# Altium integrated library Res-SMD_V2.IntLib: 2369 symbols (part 14 of 18)
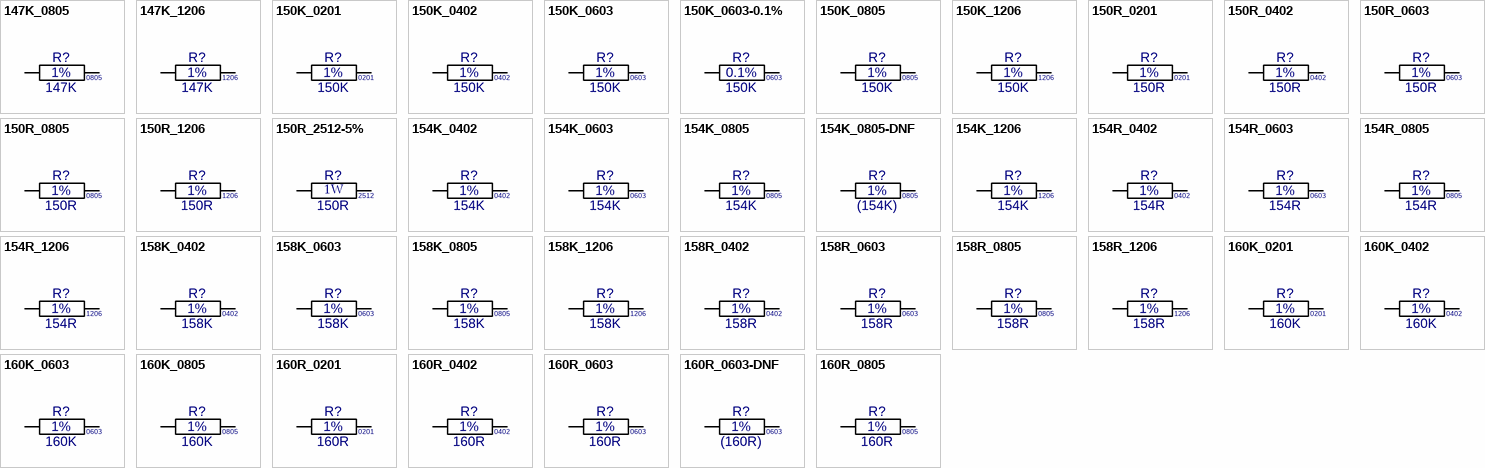
[diagram p72: symbols 147K_0805 to 160R_0805]

## 154R_0805
designator R?, comment value 154R  Tol: 1%  Text1: 0805  (hidden comment: 154R_R0805_1%)
Resistor Chip SMD; Manufacturer: Various; Part Number: 154R 0805 1%; Watt: 125mW; Package: RESC0805X65N; EDM-PN: *; Text2: *; Reutech PN: *; SAAB PN: *; DCE Part No: *
footprint RESC0805X65N (Chip Resistor, 0805, 2-Leads, Body 2.0x1.3mm, IPC Medium Density)
pins: 1, 2

## 154R_1206
designator R?, comment value 154R  Tol: 1%  Text1: 1206  (hidden comment: 154R_R1206_1%)
Resistor Chip SMD; Manufacturer: Various; Part Number: 154R 1206 1%; Watt: 250mW; Package: RESC1206X71N; EDM-PN: *; Text2: *; Reutech PN: *; SAAB PN: *; DCE Part No: *
footprint RESC1206X71N (Chip Resistor, 1206, 2-Leads, Body 3.2x1.6mm, IPC Medium Density)
pins: 1, 2

## 158K_0402
designator R?, comment value 158K  Tol: 1%  Text1: 0402  (hidden comment: 158K_R0402_1%)
Resistor Chip SMD; Manufacturer: Various; Part Number: 158K 0402 1%; Watt: 63mW; Package: RESC0402X40N; EDM-PN: *; Text2: *; Reutech PN: *; SAAB PN: *; DCE Part No: *
footprint RESC0402X40N (Chip Resistor, 0402, 2-Leads, Body 1.1x0.5mm, IPC Medium Density)
pins: 1, 2

## 158K_0603
designator R?, comment value 158K  Tol: 1%  Text1: 0603  (hidden comment: 158K_R0603_1%)
Resistor Chip SMD; Manufacturer: Various; Part Number: 158K 0603 1%; Watt: 100mW; Package: RESC0603X60N; EDM-PN: *; Text2: *; Reutech PN: *; SAAB PN: *; DCE Part No: *
footprint RESC0603X60N (Chip Resistor, 0603, 2-Leads, Body 1.6x0.8mm, IPC Medium Density)
pins: 1, 2

## 158K_0805
designator R?, comment value 158K  Tol: 1%  Text1: 0805  (hidden comment: 158K_R0805_1%)
Resistor Chip SMD; Manufacturer: Various; Part Number: 158K 0805 1%; Watt: 125mW; Package: RESC0805X65N; EDM-PN: *; Text2: *; Reutech PN: *; SAAB PN: *; DCE Part No: *
footprint RESC0805X65N (Chip Resistor, 0805, 2-Leads, Body 2.0x1.3mm, IPC Medium Density)
pins: 1, 2

## 158K_1206
designator R?, comment value 158K  Tol: 1%  Text1: 1206  (hidden comment: 158K_R1206_1%)
Resistor Chip SMD; Manufacturer: Various; Part Number: 158K 1206 1%; Watt: 250mW; Package: RESC1206X71N; EDM-PN: *; Text2: *; Reutech PN: *; SAAB PN: *; DCE Part No: *
footprint RESC1206X71N (Chip Resistor, 1206, 2-Leads, Body 3.2x1.6mm, IPC Medium Density)
pins: 1, 2

## 158R_0402
designator R?, comment value 158R  Tol: 1%  Text1: 0402  (hidden comment: 158R_R0402_1%)
Resistor Chip SMD; Manufacturer: Various; Part Number: 158R 0402 1%; Watt: 63mW; Package: RESC0402X40N; EDM-PN: *; Text2: *; Reutech PN: *; SAAB PN: *; DCE Part No: *
footprint RESC0402X40N (Chip Resistor, 0402, 2-Leads, Body 1.1x0.5mm, IPC Medium Density)
pins: 1, 2

## 158R_0603
designator R?, comment value 158R  Tol: 1%  Text1: 0603  (hidden comment: 158R_R0603_1%)
Resistor Chip SMD; Manufacturer: Various; Part Number: 158R 0603 1%; Watt: 100mW; Package: RESC0603X60N; EDM-PN: *; Text2: *; Reutech PN: *; SAAB PN: *; DCE Part No: *
footprint RESC0603X60N (Chip Resistor, 0603, 2-Leads, Body 1.6x0.8mm, IPC Medium Density)
pins: 1, 2

## 158R_0805
designator R?, comment value 158R  Tol: 1%  Text1: 0805  (hidden comment: 158R_R0805_1%)
Resistor Chip SMD; Manufacturer: Various; Part Number: 158R 0805 1%; Watt: 125mW; Package: RESC0805X65N; EDM-PN: *; Text2: *; Reutech PN: *; SAAB PN: *; DCE Part No: *
footprint RESC0805X65N (Chip Resistor, 0805, 2-Leads, Body 2.0x1.3mm, IPC Medium Density)
pins: 1, 2

## 158R_1206
designator R?, comment value 158R  Tol: 1%  Text1: 1206  (hidden comment: 158R_R1206_1%)
Resistor Chip SMD; Manufacturer: Various; Part Number: 158R 1206 1%; Watt: 250mW; Package: RESC1206X71N; EDM-PN: *; Text2: *; Reutech PN: *; SAAB PN: *; DCE Part No: *
footprint RESC1206X71N (Chip Resistor, 1206, 2-Leads, Body 3.2x1.6mm, IPC Medium Density)
pins: 1, 2

## 160K_0201
designator R?, comment value 160K  Tol: 1%  Text1: 0201  (hidden comment: 160K_R0201_1%)
Resistor Chip SMD; Manufacturer: Various; Part Number: 160K 0201 1%; Watt: 31mW; Package: RESC0201X33N; EDM-PN: *; Text2: *; Reutech PN: *; SAAB PN: *; DCE Part No: *
footprint RESC0201X33N (Chip Resistor, 0201, 2-Leads, Body 0.6x0.3mm, IPC Medium Density)
pins: 1, 2

## 160K_0402
designator R?, comment value 160K  Tol: 1%  Text1: 0402  (hidden comment: 160K_R0402_1%)
Resistor Chip SMD; Manufacturer: Various; Part Number: 160K 0402 1%; Watt: 63mW; Package: RESC0402X40N; EDM-PN: *; Text2: *; Reutech PN: *; SAAB PN: *; DCE Part No: *
footprint RESC0402X40N (Chip Resistor, 0402, 2-Leads, Body 1.1x0.5mm, IPC Medium Density)
pins: 1, 2

## 160K_0603
designator R?, comment value 160K  Tol: 1%  Text1: 0603  (hidden comment: 160K_R0603_1%)
Resistor Chip SMD; Manufacturer: Various; Part Number: 160K 0603 1%; Watt: 100mW; Package: RESC0603X60N; EDM-PN: *; Text2: *; Reutech PN: *; SAAB PN: *; DCE Part No: *
footprint RESC0603X60N (Chip Resistor, 0603, 2-Leads, Body 1.6x0.8mm, IPC Medium Density)
pins: 1, 2

## 160K_0805
designator R?, comment value 160K  Tol: 1%  Text1: 0805  (hidden comment: 160K_R0805_1%)
Resistor Chip SMD; Manufacturer: Various; Part Number: 160K 0805 1%; Watt: 125mW; Package: RESC0805X65N; EDM-PN: *; Text2: *; Reutech PN: *; SAAB PN: *; DCE Part No: *
footprint RESC0805X65N (Chip Resistor, 0805, 2-Leads, Body 2.0x1.3mm, IPC Medium Density)
pins: 1, 2

## 160R_0201
designator R?, comment value 160R  Tol: 1%  Text1: 0201  (hidden comment: 160R_R0201_1%)
Resistor Chip SMD; Manufacturer: Various; Part Number: 160R 0201 1%; Watt: 31mW; Package: RESC0201X33N; EDM-PN: *; Text2: *; Reutech PN: *; SAAB PN: *; DCE Part No: *
footprint RESC0201X33N (Chip Resistor, 0201, 2-Leads, Body 0.6x0.3mm, IPC Medium Density)
pins: 1, 2

## 160R_0402
designator R?, comment value 160R  Tol: 1%  Text1: 0402  (hidden comment: 160R_R0402_1%)
Resistor Chip SMD; Manufacturer: Various; Part Number: 160R 0402 1%; Watt: 63mW; Package: RESC0402X40N; EDM-PN: *; Text2: *; Reutech PN: *; SAAB PN: *; DCE Part No: *
footprint RESC0402X40N (Chip Resistor, 0402, 2-Leads, Body 1.1x0.5mm, IPC Medium Density)
pins: 1, 2

## 160R_0603
designator R?, comment value 160R  Tol: 1%  Text1: 0603  (hidden comment: 160R_R0603_1%)
Resistor Chip SMD; Manufacturer: Various; Part Number: 160R 0603 1%; Watt: 100mW; Package: RESC0603X60N; EDM-PN: *; Text2: *; Reutech PN: *; SAAB PN: *; DCE Part No: *
footprint RESC0603X60N (Chip Resistor, 0603, 2-Leads, Body 1.6x0.8mm, IPC Medium Density)
pins: 1, 2

## 160R_0603-DNF
designator R?, comment value (160R)  Tol: 1%  Text1: 0603  (hidden comment: 160R_R0603_1%-DNF)
Resistor Chip SMD - Do not Fit; Manufacturer: Various; Part Number: DNF - 160R 0603 1%; Watt: 100mW; Package: RESC0603X60N; EDM-PN: *; Text2: *; Reutech PN: *; SAAB PN: *; DCE Part No: *
footprint RESC0603X60N (Chip Resistor, 0603, 2-Leads, Body 1.6x0.8mm, IPC Medium Density)
pins: 1, 2

## 160R_0805
designator R?, comment value 160R  Tol: 1%  Text1: 0805  (hidden comment: 160R_R0805_1%)
Resistor Chip SMD; Manufacturer: Various; Part Number: 160R 0805 1%; Watt: 125mW; Package: RESC0805X65N; EDM-PN: *; Text2: *; Reutech PN: *; SAAB PN: *; DCE Part No: *
footprint RESC0805X65N (Chip Resistor, 0805, 2-Leads, Body 2.0x1.3mm, IPC Medium Density)
pins: 1, 2

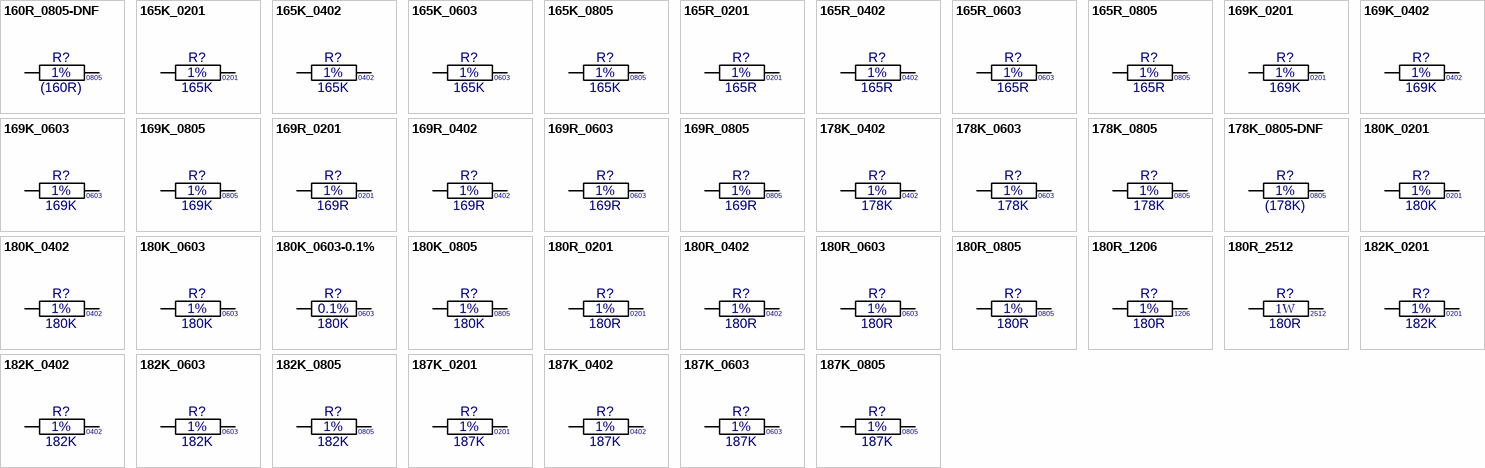
[diagram p44: symbols 160R_0805-DNF to 187K_0805]

## 160R_0805-DNF
designator R?, comment value (160R)  Tol: 1%  Text1: 0805  (hidden comment: 160R_R0805_1%-DNF)
Resistor Chip SMD - Do not Fit; Manufacturer: Various; Part Number: DNF - 160R 0805 1%; Watt: 125mW; Package: RESC0805X65N; EDM-PN: *; Text2: *; Reutech PN: *; SAAB PN: *; DCE Part No: *
footprint RESC0805X65N (Chip Resistor, 0805, 2-Leads, Body 2.0x1.3mm, IPC Medium Density)
pins: 1, 2

## 165K_0201
designator R?, comment value 165K  Tol: 1%  Text1: 0201  (hidden comment: 165K_R0201_1%)
Resistor Chip SMD; Manufacturer: Various; Part Number: 165K 0201 1%; Watt: 31mW; Package: RESC0201X33N; EDM-PN: *; Text2: *; Reutech PN: *; SAAB PN: *; DCE Part No: *
footprint RESC0201X33N (Chip Resistor, 0201, 2-Leads, Body 0.6x0.3mm, IPC Medium Density)
pins: 1, 2

## 165K_0402
designator R?, comment value 165K  Tol: 1%  Text1: 0402  (hidden comment: 165K_R0402_1%)
Resistor Chip SMD; Manufacturer: Various; Part Number: 165K 0402 1%; Watt: 63mW; Package: RESC0402X40N; EDM-PN: *; Text2: *; Reutech PN: *; SAAB PN: *; DCE Part No: *
footprint RESC0402X40N (Chip Resistor, 0402, 2-Leads, Body 1.1x0.5mm, IPC Medium Density)
pins: 1, 2

## 165K_0603
designator R?, comment value 165K  Tol: 1%  Text1: 0603  (hidden comment: 165K_R0603_1%)
Resistor Chip SMD; Manufacturer: Various; Part Number: 165K 0603 1%; Watt: 100mW; Package: RESC0603X60N; EDM-PN: *; Text2: *; Reutech PN: *; SAAB PN: *; DCE Part No: *
footprint RESC0603X60N (Chip Resistor, 0603, 2-Leads, Body 1.6x0.8mm, IPC Medium Density)
pins: 1, 2

## 165K_0805
designator R?, comment value 165K  Tol: 1%  Text1: 0805  (hidden comment: 165K_R0805_1%)
Resistor Chip SMD; Manufacturer: Various; Part Number: 165K 0805 1%; Watt: 125mW; Package: RESC0805X65N; EDM-PN: *; Text2: *; Reutech PN: *; SAAB PN: *; DCE Part No: *
footprint RESC0805X65N (Chip Resistor, 0805, 2-Leads, Body 2.0x1.3mm, IPC Medium Density)
pins: 1, 2

## 165R_0201
designator R?, comment value 165R  Tol: 1%  Text1: 0201  (hidden comment: 165R_R0201_1%)
Resistor Chip SMD; Manufacturer: Various; Part Number: 165R 0201 1%; Watt: 31mW; Package: RESC0201X33N; EDM-PN: *; Text2: *; Reutech PN: *; SAAB PN: *; DCE Part No: *
footprint RESC0201X33N (Chip Resistor, 0201, 2-Leads, Body 0.6x0.3mm, IPC Medium Density)
pins: 1, 2

## 165R_0402
designator R?, comment value 165R  Tol: 1%  Text1: 0402  (hidden comment: 165R_R0402_1%)
Resistor Chip SMD; Manufacturer: Various; Part Number: 165R 0402 1%; Watt: 63mW; Package: RESC0402X40N; EDM-PN: *; Text2: *; Reutech PN: *; SAAB PN: *; DCE Part No: *
footprint RESC0402X40N (Chip Resistor, 0402, 2-Leads, Body 1.1x0.5mm, IPC Medium Density)
pins: 1, 2

## 165R_0603
designator R?, comment value 165R  Tol: 1%  Text1: 0603  (hidden comment: 165R_R0603_1%)
Resistor Chip SMD; Manufacturer: Various; Part Number: 165R 0603 1%; Watt: 100mW; Package: RESC0603X60N; EDM-PN: *; Text2: *; Reutech PN: *; SAAB PN: *; DCE Part No: *
footprint RESC0603X60N (Chip Resistor, 0603, 2-Leads, Body 1.6x0.8mm, IPC Medium Density)
pins: 1, 2

## 165R_0805
designator R?, comment value 165R  Tol: 1%  Text1: 0805  (hidden comment: 165R_R0805_1%)
Resistor Chip SMD; Manufacturer: Various; Part Number: 165R 0805 1%; Watt: 125mW; Package: RESC0805X65N; EDM-PN: *; Text2: *; Reutech PN: *; SAAB PN: *; DCE Part No: *
footprint RESC0805X65N (Chip Resistor, 0805, 2-Leads, Body 2.0x1.3mm, IPC Medium Density)
pins: 1, 2

## 169K_0201
designator R?, comment value 169K  Tol: 1%  Text1: 0201  (hidden comment: 169K_R0201_1%)
Resistor Chip SMD; Manufacturer: Various; Part Number: 169K 0201 1%; Watt: 31mW; Package: RESC0201X33N; EDM-PN: *; Text2: *; Reutech PN: *; SAAB PN: *; DCE Part No: *
footprint RESC0201X33N (Chip Resistor, 0201, 2-Leads, Body 0.6x0.3mm, IPC Medium Density)
pins: 1, 2

## 169K_0402
designator R?, comment value 169K  Tol: 1%  Text1: 0402  (hidden comment: 169K_R0402_1%)
Resistor Chip SMD; Manufacturer: Various; Part Number: 169K 0402 1%; Watt: 63mW; Package: RESC0402X40N; EDM-PN: *; Text2: *; Reutech PN: *; SAAB PN: *; DCE Part No: *
footprint RESC0402X40N (Chip Resistor, 0402, 2-Leads, Body 1.1x0.5mm, IPC Medium Density)
pins: 1, 2

## 169K_0603
designator R?, comment value 169K  Tol: 1%  Text1: 0603  (hidden comment: 169K_R0603_1%)
Resistor Chip SMD; Manufacturer: Various; Part Number: 169K 0603 1%; Watt: 100mW; Package: RESC0603X60N; EDM-PN: *; Text2: *; Reutech PN: *; SAAB PN: *; DCE Part No: *
footprint RESC0603X60N (Chip Resistor, 0603, 2-Leads, Body 1.6x0.8mm, IPC Medium Density)
pins: 1, 2

## 169K_0805
designator R?, comment value 169K  Tol: 1%  Text1: 0805  (hidden comment: 169K_R0805_1%)
Resistor Chip SMD; Manufacturer: Various; Part Number: 169K 0805 1%; Watt: 125mW; Package: RESC0805X65N; EDM-PN: *; Text2: *; Reutech PN: *; SAAB PN: *; DCE Part No: *
footprint RESC0805X65N (Chip Resistor, 0805, 2-Leads, Body 2.0x1.3mm, IPC Medium Density)
pins: 1, 2

## 169R_0201
designator R?, comment value 169R  Tol: 1%  Text1: 0201  (hidden comment: 169R_R0201_1%)
Resistor Chip SMD; Manufacturer: Various; Part Number: 169R 0201 1%; Watt: 31mW; Package: RESC0201X33N; EDM-PN: *; Text2: *; Reutech PN: *; SAAB PN: *; DCE Part No: *
footprint RESC0201X33N (Chip Resistor, 0201, 2-Leads, Body 0.6x0.3mm, IPC Medium Density)
pins: 1, 2

## 169R_0402
designator R?, comment value 169R  Tol: 1%  Text1: 0402  (hidden comment: 169R_R0402_1%)
Resistor Chip SMD; Manufacturer: Various; Part Number: 169R 0402 1%; Watt: 63mW; Package: RESC0402X40N; EDM-PN: *; Text2: *; Reutech PN: *; SAAB PN: *; DCE Part No: *
footprint RESC0402X40N (Chip Resistor, 0402, 2-Leads, Body 1.1x0.5mm, IPC Medium Density)
pins: 1, 2

## 169R_0603
designator R?, comment value 169R  Tol: 1%  Text1: 0603  (hidden comment: 169R_R0603_1%)
Resistor Chip SMD; Manufacturer: Various; Part Number: 169R 0603 1%; Watt: 100mW; Package: RESC0603X60N; EDM-PN: *; Text2: *; Reutech PN: *; SAAB PN: *; DCE Part No: *
footprint RESC0603X60N (Chip Resistor, 0603, 2-Leads, Body 1.6x0.8mm, IPC Medium Density)
pins: 1, 2

## 169R_0805
designator R?, comment value 169R  Tol: 1%  Text1: 0805  (hidden comment: 169R_R0805_1%)
Resistor Chip SMD; Manufacturer: Various; Part Number: 169R 0805 1%; Watt: 125mW; Package: RESC0805X65N; EDM-PN: *; Text2: *; Reutech PN: *; SAAB PN: *; DCE Part No: *
footprint RESC0805X65N (Chip Resistor, 0805, 2-Leads, Body 2.0x1.3mm, IPC Medium Density)
pins: 1, 2

## 178K_0402
designator R?, comment value 178K  Tol: 1%  Text1: 0402  (hidden comment: 178K_R0402_1%)
Resistor Chip SMD; Manufacturer: Various; Part Number: 178K 0402 1%; Watt: 63mW; Package: RESC0402X40N; EDM-PN: *; Text2: *; Reutech PN: *; SAAB PN: *; DCE Part No: *
footprint RESC0402X40N (Chip Resistor, 0402, 2-Leads, Body 1.1x0.5mm, IPC Medium Density)
pins: 1, 2

## 178K_0603
designator R?, comment value 178K  Tol: 1%  Text1: 0603  (hidden comment: 178K_R0603_1%)
Resistor Chip SMD; Manufacturer: Various; Part Number: 178K 0603 1%; Watt: 100mW; Package: RESC0603X60N; EDM-PN: *; Text2: *; Reutech PN: *; SAAB PN: *; DCE Part No: *
footprint RESC0603X60N (Chip Resistor, 0603, 2-Leads, Body 1.6x0.8mm, IPC Medium Density)
pins: 1, 2

## 178K_0805
designator R?, comment value 178K  Tol: 1%  Text1: 0805  (hidden comment: 178K_R0805_1%)
Resistor Chip SMD; Manufacturer: Various; Part Number: 178K 0805 1%; Watt: 125mW; Package: RESC0805X65N; EDM-PN: *; Text2: *; Reutech PN: *; SAAB PN: *; DCE Part No: *
footprint RESC0805X65N (Chip Resistor, 0805, 2-Leads, Body 2.0x1.3mm, IPC Medium Density)
pins: 1, 2

## 178K_0805-DNF
designator R?, comment value (178K)  Tol: 1%  Text1: 0805  (hidden comment: 178K_R0805_1%-DNF)
Resistor Chip SMD - Do not Fit; Manufacturer: Various; Part Number: DNF - 178K 0805 1%; Watt: 125mW; Package: RESC0805X65N; EDM-PN: *; Text2: *; Reutech PN: *; SAAB PN: *; DCE Part No: *
footprint RESC0805X65N (Chip Resistor, 0805, 2-Leads, Body 2.0x1.3mm, IPC Medium Density)
pins: 1, 2

## 180K_0201
designator R?, comment value 180K  Tol: 1%  Text1: 0201  (hidden comment: 180K_R0201_1%)
Resistor Chip SMD; Manufacturer: Various; Part Number: 180K 0201 1%; Watt: 31mW; Package: RESC0201X33N; EDM-PN: *; Text2: *; Reutech PN: *; SAAB PN: *; DCE Part No: *
footprint RESC0201X33N (Chip Resistor, 0201, 2-Leads, Body 0.6x0.3mm, IPC Medium Density)
pins: 1, 2

## 180K_0402
designator R?, comment value 180K  Tol: 1%  Text1: 0402  (hidden comment: 180K_R0402_1%)
Resistor Chip SMD; Manufacturer: Various; Part Number: 180K 0402 1%; Watt: 63mW; EDM-PN: RES1379; SAAB PN: 1ACF01220AEA; Package: RESC0402X40N; Text2: *; Reutech PN: *; DCE Part No: *
footprint RESC0402X40N (Chip Resistor, 0402, 2-Leads, Body 1.1x0.5mm, IPC Medium Density)
pins: 1, 2

## 180K_0603
designator R?, comment value 180K  Tol: 1%  Text1: 0603  (hidden comment: 180K_R0603_1%)
Resistor Chip SMD; Manufacturer: Various; Part Number: 180K 0603 1%; Watt: 100mW; EDM-PN: RES596; Package: RESC0603X60N; Text2: *; Reutech PN: *; SAAB PN: *; DCE Part No: *
footprint RESC0603X60N (Chip Resistor, 0603, 2-Leads, Body 1.6x0.8mm, IPC Medium Density)
pins: 1, 2

## 180K_0603-0.1%
designator R?, comment value 180K  Tol: 0.1%  Text1: 0603  (hidden comment: 180K_R0603_0.1%)
Resistor Chip SMD; Manufacturer: Various; Part Number: 180K 0603 0.1%; Watt: 100mW; Reutech PN: 5905-CR-0019; Package: RESC0603X60N; EDM-PN: *; Text2: *; SAAB PN: *; DCE Part No: *
footprint RESC0603X60N (Chip Resistor, 0603, 2-Leads, Body 1.6x0.8mm, IPC Medium Density)
pins: 1, 2

## 180K_0805
designator R?, comment value 180K  Tol: 1%  Text1: 0805  (hidden comment: 180K_R0805_1%)
Resistor Chip SMD; Manufacturer: Various; Part Number: 180K 0805 1%; Watt: 125mW; Package: RESC0805X65N; EDM-PN: *; Text2: *; Reutech PN: *; SAAB PN: *; DCE Part No: *
footprint RESC0805X65N (Chip Resistor, 0805, 2-Leads, Body 2.0x1.3mm, IPC Medium Density)
pins: 1, 2

## 180R_0201
designator R?, comment value 180R  Tol: 1%  Text1: 0201  (hidden comment: 180R_R0201_1%)
Resistor Chip SMD; Manufacturer: Various; Part Number: 180R 0201 1%; Watt: 31mW; Package: RESC0201X33N; EDM-PN: *; Text2: *; Reutech PN: *; SAAB PN: *; DCE Part No: *
footprint RESC0201X33N (Chip Resistor, 0201, 2-Leads, Body 0.6x0.3mm, IPC Medium Density)
pins: 1, 2

## 180R_0402
designator R?, comment value 180R  Tol: 1%  Text1: 0402  (hidden comment: 180R_R0402_1%)
Resistor Chip SMD; Manufacturer: Various; Part Number: 180R 0402 1%; Watt: 63mW; Package: RESC0402X40N; EDM-PN: *; Text2: *; Reutech PN: *; SAAB PN: *; DCE Part No: *
footprint RESC0402X40N (Chip Resistor, 0402, 2-Leads, Body 1.1x0.5mm, IPC Medium Density)
pins: 1, 2

## 180R_0603
designator R?, comment value 180R  Tol: 1%  Text1: 0603  (hidden comment: 180R_R0603_1%)
Resistor Chip SMD; Manufacturer: Various; Part Number: 180R 0603 1%; Watt: 100mW; EDM-PN: RES596; Package: RESC0603X60N; Text2: *; Reutech PN: *; SAAB PN: *; DCE Part No: *
footprint RESC0603X60N (Chip Resistor, 0603, 2-Leads, Body 1.6x0.8mm, IPC Medium Density)
pins: 1, 2

## 180R_0805
designator R?, comment value 180R  Tol: 1%  Text1: 0805  (hidden comment: 180R_R0805_1%)
Resistor Chip SMD; Manufacturer: Various; Part Number: 180R 0805 1%; Watt: 125mW; Package: RESC0805X65N; EDM-PN: *; Text2: *; Reutech PN: *; SAAB PN: *; DCE Part No: *
footprint RESC0805X65N (Chip Resistor, 0805, 2-Leads, Body 2.0x1.3mm, IPC Medium Density)
pins: 1, 2

## 180R_1206
designator R?, comment value 180R  Tol: 1%  Text1: 1206  (hidden comment: 180R_R1206_1%)
Resistor Chip SMD; Manufacturer: Various; Part Number: 180R 1206 1%; Watt: 250mW; Package: RESC1206X71N; EDM-PN: *; Text2: *; Reutech PN: *; SAAB PN: *; DCE Part No: *
footprint RESC1206X71N (Chip Resistor, 1206, 2-Leads, Body 3.2x1.6mm, IPC Medium Density)
pins: 1, 2

## 180R_2512
designator R?, comment value 180R  Watt: 1W  Text1: 2512  (hidden comment: 180R_R2512_1%)
Resistor Chip SMD; Manufacturer: Various; Part Number: 180R 2512 1%; Tol: 1%; Package: RESC2512X71N; EDM-PN: *; Text2: *; Reutech PN: *; SAAB PN: *; DCE Part No: *
footprint RESC2512X71N (Chip Resistor, 2512, 2-Leads, Body 6.3x3.2mm, IPC Medium Density)
pins: 1, 2

## 182K_0201
designator R?, comment value 182K  Tol: 1%  Text1: 0201  (hidden comment: 182K_R0201_1%)
Resistor Chip SMD; Manufacturer: Various; Part Number: 182K 0201 1%; Watt: 31mW; Package: RESC0201X33N; EDM-PN: *; Text2: *; Reutech PN: *; SAAB PN: *; DCE Part No: *
footprint RESC0201X33N (Chip Resistor, 0201, 2-Leads, Body 0.6x0.3mm, IPC Medium Density)
pins: 1, 2

## 182K_0402
designator R?, comment value 182K  Tol: 1%  Text1: 0402  (hidden comment: 182K_R0402_1%)
Resistor Chip SMD; Manufacturer: Various; Part Number: 182K 0402 1%; Watt: 63mW; Package: RESC0402X40N; EDM-PN: *; Text2: *; Reutech PN: *; SAAB PN: *; DCE Part No: *
footprint RESC0402X40N (Chip Resistor, 0402, 2-Leads, Body 1.1x0.5mm, IPC Medium Density)
pins: 1, 2

## 182K_0603
designator R?, comment value 182K  Tol: 1%  Text1: 0603  (hidden comment: 182K_R0603_1%)
Resistor Chip SMD; Manufacturer: Various; Part Number: 182K 0603 1%; Watt: 100mW; Package: RESC0603X60N; EDM-PN: *; Text2: *; Reutech PN: *; SAAB PN: *; DCE Part No: *
footprint RESC0603X60N (Chip Resistor, 0603, 2-Leads, Body 1.6x0.8mm, IPC Medium Density)
pins: 1, 2

## 182K_0805
designator R?, comment value 182K  Tol: 1%  Text1: 0805  (hidden comment: 182K_R0805_1%)
Resistor Chip SMD; Manufacturer: Various; Part Number: 182K 0805 1%; Watt: 125mW; Package: RESC0805X65N; EDM-PN: *; Text2: *; Reutech PN: *; SAAB PN: *; DCE Part No: *
footprint RESC0805X65N (Chip Resistor, 0805, 2-Leads, Body 2.0x1.3mm, IPC Medium Density)
pins: 1, 2

## 187K_0201
designator R?, comment value 187K  Tol: 1%  Text1: 0201  (hidden comment: 187K_R0201_1%)
Resistor Chip SMD; Manufacturer: Various; Part Number: 187K 0201 1%; Watt: 31mW; Package: RESC0201X33N; EDM-PN: *; Text2: *; Reutech PN: *; SAAB PN: *; DCE Part No: *
footprint RESC0201X33N (Chip Resistor, 0201, 2-Leads, Body 0.6x0.3mm, IPC Medium Density)
pins: 1, 2

## 187K_0402
designator R?, comment value 187K  Tol: 1%  Text1: 0402  (hidden comment: 187K_R0402_1%)
Resistor Chip SMD; Manufacturer: Various; Part Number: 187K 0402 1%; Watt: 63mW; Package: RESC0402X40N; EDM-PN: *; Text2: *; Reutech PN: *; SAAB PN: *; DCE Part No: *
footprint RESC0402X40N (Chip Resistor, 0402, 2-Leads, Body 1.1x0.5mm, IPC Medium Density)
pins: 1, 2

## 187K_0603
designator R?, comment value 187K  Tol: 1%  Text1: 0603  (hidden comment: 187K_R0603_1%)
Resistor Chip SMD; Manufacturer: Various; Part Number: 187K 0603 1%; Watt: 100mW; Package: RESC0603X60N; EDM-PN: *; Text2: *; Reutech PN: *; SAAB PN: *; DCE Part No: *
footprint RESC0603X60N (Chip Resistor, 0603, 2-Leads, Body 1.6x0.8mm, IPC Medium Density)
pins: 1, 2

## 187K_0805
designator R?, comment value 187K  Tol: 1%  Text1: 0805  (hidden comment: 187K_R0805_1%)
Resistor Chip SMD; Manufacturer: Various; Part Number: 187K 0805 1%; Watt: 125mW; Package: RESC0805X65N; EDM-PN: *; Text2: *; Reutech PN: *; SAAB PN: *; DCE Part No: *
footprint RESC0805X65N (Chip Resistor, 0805, 2-Leads, Body 2.0x1.3mm, IPC Medium Density)
pins: 1, 2

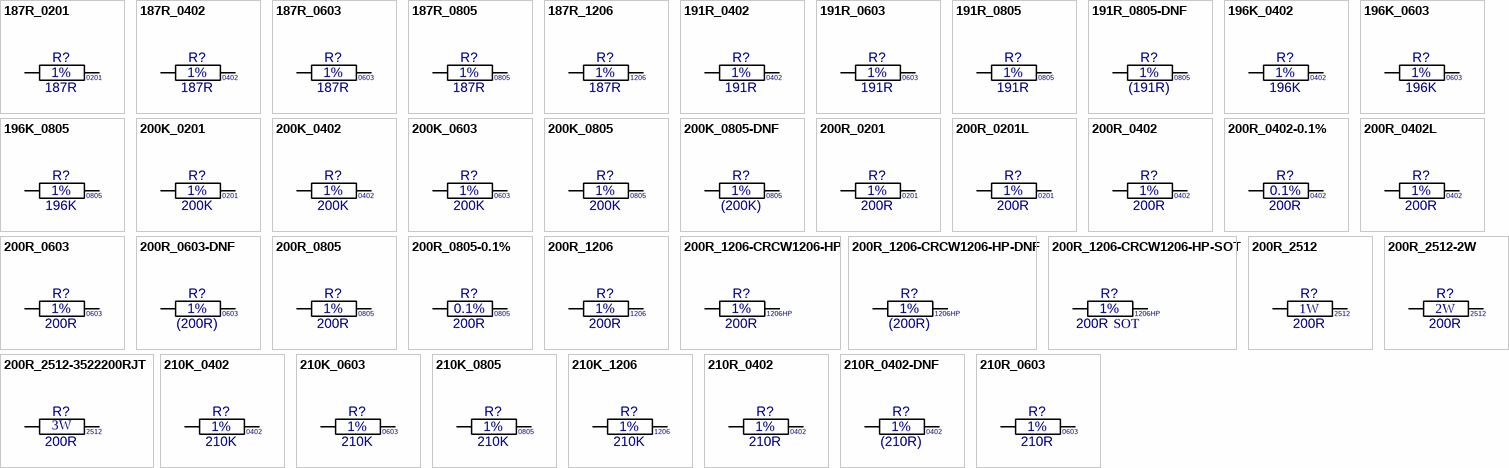
[diagram p45: symbols 187R_0201 to 210R_0603]

## 187R_0201
designator R?, comment value 187R  Tol: 1%  Text1: 0201  (hidden comment: 187R_R0201_1%)
Resistor Chip SMD; Manufacturer: Various; Part Number: 187R 0201 1%; Watt: 31mW; Package: RESC0201X33N; EDM-PN: *; Text2: *; Reutech PN: *; SAAB PN: *; DCE Part No: *
footprint RESC0201X33N (Chip Resistor, 0201, 2-Leads, Body 0.6x0.3mm, IPC Medium Density)
pins: 1, 2

## 187R_0402
designator R?, comment value 187R  Tol: 1%  Text1: 0402  (hidden comment: 187R_R0402_1%)
Resistor Chip SMD; Manufacturer: Various; Part Number: 187R 0402 1%; Watt: 63mW; Package: RESC0402X40N; EDM-PN: *; Text2: *; Reutech PN: *; SAAB PN: *; DCE Part No: *
footprint RESC0402X40N (Chip Resistor, 0402, 2-Leads, Body 1.1x0.5mm, IPC Medium Density)
pins: 1, 2

## 187R_0603
designator R?, comment value 187R  Tol: 1%  Text1: 0603  (hidden comment: 187R_R0603_1%)
Resistor Chip SMD; Manufacturer: Various; Part Number: 187R 0603 1%; Watt: 100mW; Package: RESC0603X60N; EDM-PN: *; Text2: *; Reutech PN: *; SAAB PN: *; DCE Part No: *
footprint RESC0603X60N (Chip Resistor, 0603, 2-Leads, Body 1.6x0.8mm, IPC Medium Density)
pins: 1, 2

## 187R_0805
designator R?, comment value 187R  Tol: 1%  Text1: 0805  (hidden comment: 187R_R0805_1%)
Resistor Chip SMD; Manufacturer: Various; Part Number: 187R 0805 1%; Watt: 125mW; Package: RESC0805X65N; EDM-PN: *; Text2: *; Reutech PN: *; SAAB PN: *; DCE Part No: *
footprint RESC0805X65N (Chip Resistor, 0805, 2-Leads, Body 2.0x1.3mm, IPC Medium Density)
pins: 1, 2

## 187R_1206
designator R?, comment value 187R  Tol: 1%  Text1: 1206  (hidden comment: 187R_R1206_1%)
Resistor Chip SMD; Manufacturer: Various; Part Number: 187R 1206 1%; Watt: 250mW; Package: RESC1206X71N; EDM-PN: *; Text2: *; Reutech PN: *; SAAB PN: *; DCE Part No: *
footprint RESC1206X71N (Chip Resistor, 1206, 2-Leads, Body 3.2x1.6mm, IPC Medium Density)
pins: 1, 2

## 191R_0402
designator R?, comment value 191R  Tol: 1%  Text1: 0402  (hidden comment: 191R_R0402_1%)
Resistor Chip SMD; Manufacturer: Various; Part Number: 191R 0402 1%; Watt: 63mW; Package: RESC0402X40N; EDM-PN: *; Text2: *; Reutech PN: *; SAAB PN: *; DCE Part No: *
footprint RESC0402X40N (Chip Resistor, 0402, 2-Leads, Body 1.1x0.5mm, IPC Medium Density)
pins: 1, 2

## 191R_0603
designator R?, comment value 191R  Tol: 1%  Text1: 0603  (hidden comment: 191R_R0603_1%)
Resistor Chip SMD; Manufacturer: Various; Part Number: 191R 0603 1%; Watt: 100mW; Package: RESC0603X60N; EDM-PN: *; Text2: *; Reutech PN: *; SAAB PN: *; DCE Part No: *
footprint RESC0603X60N (Chip Resistor, 0603, 2-Leads, Body 1.6x0.8mm, IPC Medium Density)
pins: 1, 2

## 191R_0805
designator R?, comment value 191R  Tol: 1%  Text1: 0805  (hidden comment: 191R_R0805_1%)
Resistor Chip SMD; Manufacturer: Various; Part Number: 191R 0805 1%; Watt: 125mW; Package: RESC0805X65N; EDM-PN: *; Text2: *; Reutech PN: *; SAAB PN: *; DCE Part No: *
footprint RESC0805X65N (Chip Resistor, 0805, 2-Leads, Body 2.0x1.3mm, IPC Medium Density)
pins: 1, 2

## 191R_0805-DNF
designator R?, comment value (191R)  Tol: 1%  Text1: 0805  (hidden comment: 191R_R0805_1%-DNF)
Resistor Chip SMD - Do Not Fit; Manufacturer: Various; Part Number: DNF-191R 0805 1%; Watt: 125mW; Package: RESC0805X65N; EDM-PN: *; Text2: *; Reutech PN: *; SAAB PN: *; DCE Part No: *
footprint RESC0805X65N (Chip Resistor, 0805, 2-Leads, Body 2.0x1.3mm, IPC Medium Density)
pins: 1, 2

## 196K_0402
designator R?, comment value 196K  Tol: 1%  Text1: 0402  (hidden comment: 196K_R0402_1%)
Resistor Chip SMD; Manufacturer: Various; Part Number: 196K 0402 1%; Watt: 63mW; Package: RESC0402X40N; EDM-PN: *; Text2: *; Reutech PN: *; SAAB PN: *; DCE Part No: *
footprint RESC0402X40N (Chip Resistor, 0402, 2-Leads, Body 1.1x0.5mm, IPC Medium Density)
pins: 1, 2

## 196K_0603
designator R?, comment value 196K  Tol: 1%  Text1: 0603  (hidden comment: 196K_R0603_1%)
Resistor Chip SMD; Manufacturer: Various; Part Number: 196K 0603 1%; Watt: 100mW; Package: RESC0603X60N; EDM-PN: *; Text2: *; Reutech PN: *; SAAB PN: *; DCE Part No: *
footprint RESC0603X60N (Chip Resistor, 0603, 2-Leads, Body 1.6x0.8mm, IPC Medium Density)
pins: 1, 2

## 196K_0805
designator R?, comment value 196K  Tol: 1%  Text1: 0805  (hidden comment: 196K_R0805_1%)
Resistor Chip SMD; Manufacturer: Various; Part Number: 196K 0805 1%; Watt: 125mW; Package: RESC0805X65N; EDM-PN: *; Text2: *; Reutech PN: *; SAAB PN: *; DCE Part No: *
footprint RESC0805X65N (Chip Resistor, 0805, 2-Leads, Body 2.0x1.3mm, IPC Medium Density)
pins: 1, 2

## 200K_0201
designator R?, comment value 200K  Tol: 1%  Text1: 0201  (hidden comment: 200K_R0201_1%)
Resistor Chip SMD; Manufacturer: Various; Part Number: 200K 0201 1%; Watt: 31mW; Package: RESC0201X33N; EDM-PN: *; Text2: *; Reutech PN: *; SAAB PN: *; DCE Part No: *
footprint RESC0201X33N (Chip Resistor, 0201, 2-Leads, Body 0.6x0.3mm, IPC Medium Density)
pins: 1, 2

## 200K_0402
designator R?, comment value 200K  Tol: 1%  Text1: 0402  (hidden comment: 200K_R0402_1%)
Resistor Chip SMD; Manufacturer: Various; Part Number: 200K 0402 1%; Watt: 63mW; EDM-PN: RES1453; Package: RESC0402X40N; Text2: *; Reutech PN: *; SAAB PN: *; DCE Part No: *
footprint RESC0402X40N (Chip Resistor, 0402, 2-Leads, Body 1.1x0.5mm, IPC Medium Density)
pins: 1, 2

## 200K_0603
designator R?, comment value 200K  Tol: 1%  Text1: 0603  (hidden comment: 200K_R0603_1%)
Resistor Chip SMD; Manufacturer: Various; Part Number: 200K 0603 1%; Watt: 100mW; EDM-PN: RES703; Package: RESC0603X60N; Text2: *; Reutech PN: *; SAAB PN: *; DCE Part No: *
footprint RESC0603X60N (Chip Resistor, 0603, 2-Leads, Body 1.6x0.8mm, IPC Medium Density)
pins: 1, 2

## 200K_0805
designator R?, comment value 200K  Tol: 1%  Text1: 0805  (hidden comment: 200K_R0805_1%)
Resistor Chip SMD; Manufacturer: Various; Part Number: 200K 0805 1%; Watt: 125mW; Package: RESC0805X65N; EDM-PN: *; Text2: *; Reutech PN: *; SAAB PN: *; DCE Part No: *
footprint RESC0805X65N (Chip Resistor, 0805, 2-Leads, Body 2.0x1.3mm, IPC Medium Density)
pins: 1, 2

## 200K_0805-DNF
designator R?, comment value (200K)  Tol: 1%  Text1: 0805  (hidden comment: 200K_R0805_1%-DNF)
Resistor Chip SMD - Do not Fit; Manufacturer: Various; Part Number: DNF - 200K 0805 1%; Watt: 125mW; Package: RESC0805X65N; EDM-PN: *; Text2: *; Reutech PN: *; SAAB PN: *; DCE Part No: *
footprint RESC0805X65N (Chip Resistor, 0805, 2-Leads, Body 2.0x1.3mm, IPC Medium Density)
pins: 1, 2

## 200R_0201
designator R?, comment value 200R  Tol: 1%  Text1: 0201  (hidden comment: 200R_R0201_1%)
Resistor Chip SMD; Manufacturer: Various; Part Number: 200R 0201 1%; Watt: 31mW; Package: RESC0201X33N; EDM-PN: *; Text2: *; Reutech PN: *; SAAB PN: *; DCE Part No: *
footprint RESC0201X33N (Chip Resistor, 0201, 2-Leads, Body 0.6x0.3mm, IPC Medium Density)
pins: 1, 2

## 200R_0201L
designator R?, comment value 200R  Tol: 1%  Text1: 0201  (hidden comment: 200R_R0201_1%)
Resistor Chip SMD; Manufacturer: Various; Part Number: 200R 0201 1%; Watt: 31mW; Package: RESC0201X33L; EDM-PN: *; Text2: *; Reutech PN: *; SAAB PN: *; DCE Part No: *
footprint RESC0201X33L (Chip Resistor, 0201, 2-Leads, Body 0.6x0.3mm, IPC Least Density)
pins: 1, 2

## 200R_0402
designator R?, comment value 200R  Tol: 1%  Text1: 0402  (hidden comment: 200R_R0402_1%)
Resistor Chip SMD; Manufacturer: Various; Part Number: 200R 0402 1%; Watt: 63mW; EDM-PN: RES654; Package: RESC0402X40N; Text2: *; Reutech PN: *; SAAB PN: *; DCE Part No: *
footprint RESC0402X40N (Chip Resistor, 0402, 2-Leads, Body 1.1x0.5mm, IPC Medium Density)
pins: 1, 2

## 200R_0402-0.1%
designator R?, comment value 200R  Tol: 0.1%  Text1: 0402  (hidden comment: 200R_R0402_0.1%)
Resistor Chip SMD; Manufacturer: Various; Part Number: 200R 0402 0.1%; Watt: 63mW; Package: RESC0402X40N; EDM-PN: *; Text2: *; Reutech PN: *; SAAB PN: *; DCE Part No: *
footprint RESC0402X40N (Chip Resistor, 0402, 2-Leads, Body 1.1x0.5mm, IPC Medium Density)
pins: 1, 2

## 200R_0402L
designator R?, comment value 200R  Tol: 1%  Text1: 0402  (hidden comment: 200R_R0402_1%)
Resistor Chip SMD; Manufacturer: Various; Part Number: 200R 0402 1%; Watt: 63mW; EDM-PN: RES654; Package: RESC0402X40L; Text2: *; Reutech PN: *; SAAB PN: *; DCE Part No: *
footprint RESC0402X40L (Chip Resistor, 0402, 2-Leads, Body 1.1x0.5mm, IPC High Density)
pins: 1, 2

## 200R_0603
designator R?, comment value 200R  Tol: 1%  Text1: 0603  (hidden comment: 200R_R0603_1%)
Resistor Chip SMD; Manufacturer: Various; Part Number: 200R 0603 1%; Watt: 100mW; Package: RESC0603X60N; EDM-PN: *; Text2: *; Reutech PN: 5905-93-2000; SAAB PN: *; DCE Part No: *
footprint RESC0603X60N (Chip Resistor, 0603, 2-Leads, Body 1.6x0.8mm, IPC Medium Density)
pins: 1, 2

## 200R_0603-DNF
designator R?, comment value (200R)  Tol: 1%  Text1: 0603  (hidden comment: 200R_R0603_1%-DNF)
Resistor Chip SMD - Do not Fit; Manufacturer: Various; Part Number: DNF - 200R 0603 1%; Watt: 100mW; Package: RESC0603X60N; EDM-PN: *; Text2: *; Reutech PN: 5905-93-2000; SAAB PN: *; DCE Part No: *
footprint RESC0603X60N (Chip Resistor, 0603, 2-Leads, Body 1.6x0.8mm, IPC Medium Density)
pins: 1, 2

## 200R_0805
designator R?, comment value 200R  Tol: 1%  Text1: 0805  (hidden comment: 200R_R0805_1%)
Resistor Chip SMD; Manufacturer: Various; Part Number: 200R 0805 1%; Watt: 125mW; Package: RESC0805X65N; EDM-PN: *; Text2: *; Reutech PN: *; SAAB PN: *; DCE Part No: *
footprint RESC0805X65N (Chip Resistor, 0805, 2-Leads, Body 2.0x1.3mm, IPC Medium Density)
pins: 1, 2

## 200R_0805-0.1%
designator R?, comment value 200R  Tol: 0.1%  Text1: 0805  (hidden comment: 200R_R0805_0.1%)
Resistor Chip SMD; Manufacturer: Various; Part Number: 200R 0805 0.1%; Watt: 125mW; Package: RESC0805X65N; EDM-PN: *; Text2: *; Reutech PN: *; SAAB PN: *; DCE Part No: *
footprint RESC0805X65N (Chip Resistor, 0805, 2-Leads, Body 2.0x1.3mm, IPC Medium Density)
pins: 1, 2

## 200R_1206
designator R?, comment value 200R  Tol: 1%  Text1: 1206  (hidden comment: 200R_R1206_1%)
Resistor Chip SMD; Manufacturer: Various; Part Number: 200R 1206 1%; Watt: 250mW; Package: RESC1206X71N; EDM-PN: *; Text2: *; Reutech PN: *; SAAB PN: *; DCE Part No: *
footprint RESC1206X71N (Chip Resistor, 1206, 2-Leads, Body 3.2x1.6mm, IPC Medium Density)
pins: 1, 2

## 200R_1206-CRCW1206-HP
designator R?, comment value 200R  Tol: 1%  Text1: 1206HP  (hidden comment: 200R_R1206_1%-CRCW1206-HP)
Resistor Chip Pulse Proof High Power Thick Film; Manufacturer: Vishay; Part Number: CRCW1206200RFKEAHP; Watt: 500mW; Package: CRCW1206-HP; EDM-PN: *; Text2: *; Reutech PN: *; SAAB PN: *; DCE Part No: *
footprint CRCW1206-HP (CCRCW1206-HP 3.2x1.6mm, IPC Medium Density)
pins: 1, 2

## 200R_1206-CRCW1206-HP-DNF
designator R?, comment value (200R)  Tol: 1%  Text1: 1206HP  (hidden comment: 200R_R1206_1%-CRCW1206-HP-DNF)
Resistor Chip Pulse Proof High Power Thick Film - Do not Fit; Manufacturer: Vishay; Part Number: DNF - CRCW1206200RFKEAHP; Watt: 500mW; Package: CRCW1206-HP; EDM-PN: *; Text2: *; Reutech PN: *; SAAB PN: *; DCE Part No: *
footprint CRCW1206-HP (CCRCW1206-HP 3.2x1.6mm, IPC Medium Density)
pins: 1, 2

## 200R_1206-CRCW1206-HP-SOT
designator R?, comment value 200R  Text2: SOT  Tol: 1%  Text1: 1206HP  (hidden comment: 200R_R1206_1%-CRCW1206-HP-AOT)
Resistor Chip Pulse Proof High Power Thick Film - SOT; Manufacturer: Vishay; Part Number: SOT - CRCW1206200RFKEAHP; Watt: 500mW; Package: CRCW1206-HP; EDM-PN: *; Reutech PN: *; SAAB PN: *; DCE Part No: *
footprint CRCW1206-HP (CCRCW1206-HP 3.2x1.6mm, IPC Medium Density)
pins: 1, 2

## 200R_2512
designator R?, comment value 200R  Watt: 1W  Text1: 2512  (hidden comment: 200R_R2512_1%)
Resistor Chip SMD; Manufacturer: Various; Part Number: 200R 2512 1%; Tol: 1%; Package: RESC2512X71N; EDM-PN: *; Text2: *; Reutech PN: *; SAAB PN: *; DCE Part No: *
footprint RESC2512X71N (Chip Resistor, 2512, 2-Leads, Body 6.3x3.2mm, IPC Medium Density)
pins: 1, 2

## 200R_2512-2W
designator R?, comment value 200R  Watt: 2W  Text1: 2512  (hidden comment: 200R_R2512_1%-2W)
Resistor Thick Film; Manufacturer: Various; Part Number: 200R 2512 1% 2W; Tol: 1%; Package: RESC2512X71N; EDM-PN: *; Text2: *; Reutech PN: *; SAAB PN: *; DCE Part No: *
footprint RESC2512X71N (Chip Resistor, 2512, 2-Leads, Body 6.3x3.2mm, IPC Medium Density)
pins: 1, 2

## 200R_2512-3522200RJT
designator R?, comment value 200R  Watt: 3W  Text1: 2512  (hidden comment: 3522200RJT)
Resistor Chip Thick Film; Manufacturer: TE Connectivity; Tol: 5%; Part Number: 3522200RJT; Package: RESC2512X71N; EDM-PN: *; Text2: *; Reutech PN: *; SAAB PN: *; DCE Part No: *
footprint RESC2512X71N (Chip Resistor, 2512, 2-Leads, Body 6.3x3.2mm, IPC Medium Density)
pins: 1, 2

## 210K_0402
designator R?, comment value 210K  Tol: 1%  Text1: 0402  (hidden comment: 210K_R0402_1%)
Resistor Chip SMD; Manufacturer: Various; Part Number: 210K 0402 1%; Watt: 63mW; Package: RESC0402X40N; EDM-PN: *; Text2: *; Reutech PN: *; SAAB PN: *; DCE Part No: *
footprint RESC0402X40N (Chip Resistor, 0402, 2-Leads, Body 1.1x0.5mm, IPC Medium Density)
pins: 1, 2

## 210K_0603
designator R?, comment value 210K  Tol: 1%  Text1: 0603  (hidden comment: 210K_R0603_1%)
Resistor Chip SMD; Manufacturer: Various; Part Number: 210K 0603 1%; Watt: 100mW; Package: RESC0603X60N; EDM-PN: *; Text2: *; Reutech PN: *; SAAB PN: *; DCE Part No: *
footprint RESC0603X60N (Chip Resistor, 0603, 2-Leads, Body 1.6x0.8mm, IPC Medium Density)
pins: 1, 2

## 210K_0805
designator R?, comment value 210K  Tol: 1%  Text1: 0805  (hidden comment: 210K_R0805_1%)
Resistor Chip SMD; Manufacturer: Various; Part Number: 210K 0805 1%; Watt: 125mW; Package: RESC0805X65N; EDM-PN: *; Text2: *; Reutech PN: *; SAAB PN: *; DCE Part No: *
footprint RESC0805X65N (Chip Resistor, 0805, 2-Leads, Body 2.0x1.3mm, IPC Medium Density)
pins: 1, 2

## 210K_1206
designator R?, comment value 210K  Tol: 1%  Text1: 1206  (hidden comment: 210K_R1206_1%)
Resistor Chip SMD; Manufacturer: Various; Part Number: 210K 1206 1%; Watt: 250mW; Package: RESC1206X71N; EDM-PN: *; Text2: *; Reutech PN: *; SAAB PN: *; DCE Part No: *
footprint RESC1206X71N (Chip Resistor, 1206, 2-Leads, Body 3.2x1.6mm, IPC Medium Density)
pins: 1, 2

## 210R_0402
designator R?, comment value 210R  Tol: 1%  Text1: 0402  (hidden comment: 210R_R0402_1%)
Resistor Chip SMD; Manufacturer: Various; Part Number: 210R 0402 1%; Watt: 63mW; Package: RESC0402X40N; EDM-PN: *; Text2: *; Reutech PN: *; SAAB PN: *; DCE Part No: *
footprint RESC0402X40N (Chip Resistor, 0402, 2-Leads, Body 1.1x0.5mm, IPC Medium Density)
pins: 1, 2

## 210R_0402-DNF
designator R?, comment value (210R)  Tol: 1%  Text1: 0402  (hidden comment: 210R_R0402_1%-DNF)
Resistor Chip SMD - Do not Fit; Manufacturer: Various; Part Number: DNF - 210R 0402 1%; Watt: 63mW; Package: RESC0402X40N; EDM-PN: *; Text2: *; Reutech PN: *; SAAB PN: *; DCE Part No: *
footprint RESC0402X40N (Chip Resistor, 0402, 2-Leads, Body 1.1x0.5mm, IPC Medium Density)
pins: 1, 2

## 210R_0603
designator R?, comment value 210R  Tol: 1%  Text1: 0603  (hidden comment: 210R_R0603_1%)
Resistor Chip SMD; Manufacturer: Various; Part Number: 210R 0603 1%; Watt: 100mW; Package: RESC0603X60N; EDM-PN: *; Text2: *; Reutech PN: *; SAAB PN: *; DCE Part No: *
footprint RESC0603X60N (Chip Resistor, 0603, 2-Leads, Body 1.6x0.8mm, IPC Medium Density)
pins: 1, 2

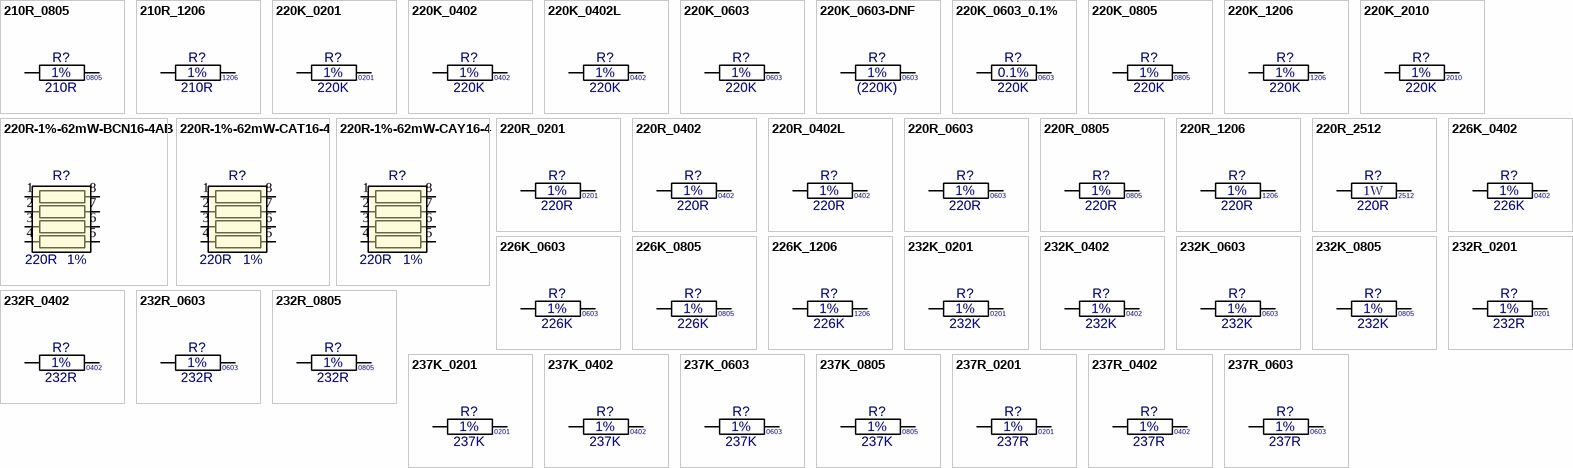
[diagram p46: symbols 210R_0805 to 237R_0603]

## 210R_0805
designator R?, comment value 210R  Tol: 1%  Text1: 0805  (hidden comment: 210R_R0805_1%)
Resistor Chip SMD; Manufacturer: Various; Part Number: 210R 0805 1%; Watt: 125mW; Package: RESC0805X65N; EDM-PN: *; Text2: *; Reutech PN: *; SAAB PN: *; DCE Part No: *
footprint RESC0805X65N (Chip Resistor, 0805, 2-Leads, Body 2.0x1.3mm, IPC Medium Density)
pins: 1, 2

## 210R_1206
designator R?, comment value 210R  Tol: 1%  Text1: 1206  (hidden comment: 210R_R1206_1%)
Resistor Chip SMD; Manufacturer: Various; Part Number: 210R 1206 1%; Watt: 250mW; Package: RESC1206X71N; EDM-PN: *; Text2: *; Reutech PN: *; SAAB PN: *; DCE Part No: *
footprint RESC1206X71N (Chip Resistor, 1206, 2-Leads, Body 3.2x1.6mm, IPC Medium Density)
pins: 1, 2

## 220K_0201
designator R?, comment value 220K  Tol: 1%  Text1: 0201  (hidden comment: 220K_R0201_1%)
Resistor Chip SMD; Manufacturer: Various; Part Number: 220K 0201 1%; Watt: 31mW; Package: RESC0201X33N; EDM-PN: *; Text2: *; Reutech PN: *; SAAB PN: *; DCE Part No: *
footprint RESC0201X33N (Chip Resistor, 0201, 2-Leads, Body 0.6x0.3mm, IPC Medium Density)
pins: 1, 2

## 220K_0402
designator R?, comment value 220K  Tol: 1%  Text1: 0402  (hidden comment: 220K_R0402_1%)
Resistor Chip SMD; Manufacturer: Various; Part Number: 220K 0402 1%; DCE Part No: 7810; Watt: 63mW; EDM-PN: RES655; SAAB PN: 1ACF01171AEA; Package: RESC0402X40N; Text2: *; Reutech PN: *
footprint RESC0402X40N (Chip Resistor, 0402, 2-Leads, Body 1.1x0.5mm, IPC Medium Density)
pins: 1, 2

## 220K_0402L
designator R?, comment value 220K  Tol: 1%  Text1: 0402  (hidden comment: 220K_R0402_1%)
Resistor Chip SMD; Manufacturer: Various; Part Number: 220K 0402 1%; DCE Part No: 7810; Watt: 63mW; EDM-PN: RES655; SAAB PN: 1ACF01171AEA; Package: RESC0402X40L; Text2: *; Reutech PN: *
footprint RESC0402X40L (Chip Resistor, 0402, 2-Leads, Body 1.1x0.5mm, IPC High Density)
pins: 1, 2

## 220K_0603
designator R?, comment value 220K  Tol: 1%  Text1: 0603  (hidden comment: 220K_R0603_1%)
Resistor Chip SMD; Manufacturer: Various; Part Number: 220K 0603 1%; Watt: 100mW; EDM-PN: RES589; Package: RESC0603X60N; Text2: *; Reutech PN: *; SAAB PN: *; DCE Part No: *
footprint RESC0603X60N (Chip Resistor, 0603, 2-Leads, Body 1.6x0.8mm, IPC Medium Density)
pins: 1, 2

## 220K_0603-DNF
designator R?, comment value (220K)  Tol: 1%  Text1: 0603  (hidden comment: 220K_R0603_1%)
Resistor Chip SMD - Do not Fit; Manufacturer: Various; Part Number: DNF - 220K 0603 1%; Watt: 100mW; Package: RESC0603X60N; EDM-PN: *; Text2: *; Reutech PN: *; SAAB PN: *; DCE Part No: *
footprint RESC0603X60N (Chip Resistor, 0603, 2-Leads, Body 1.6x0.8mm, IPC Medium Density)
pins: 1, 2

## 220K_0603_0.1%
designator R?, comment value 220K  Tol: 0.1%  Text1: 0603  (hidden comment: 220K_R0603_0.1%)
Resistor Chip SMD; Manufacturer: Various; Part Number: 220K 0603 0.1%; Watt: 100mW; Package: RESC0603X60N; EDM-PN: *; Text2: *; Reutech PN: *; SAAB PN: *; DCE Part No: *
footprint RESC0603X60N (Chip Resistor, 0603, 2-Leads, Body 1.6x0.8mm, IPC Medium Density)
pins: 1, 2

## 220K_0805
designator R?, comment value 220K  Tol: 1%  Text1: 0805  (hidden comment: 220K_R0805_1%)
Resistor Chip SMD; Manufacturer: Various; Part Number: 220K 0805 1%; Watt: 125mW; EDM-PN: RES97; Package: RESC0805X65N; Text2: *; Reutech PN: *; SAAB PN: *; DCE Part No: *
footprint RESC0805X65N (Chip Resistor, 0805, 2-Leads, Body 2.0x1.3mm, IPC Medium Density)
pins: 1, 2

## 220K_1206
designator R?, comment value 220K  Tol: 1%  Text1: 1206  (hidden comment: 220KR_R1206_1%)
Resistor Chip SMD; Manufacturer: Various; Part Number: 220K 1206 1%; Watt: 250mW; Package: RESC1206X71N; EDM-PN: *; Text2: *; Reutech PN: *; SAAB PN: *; DCE Part No: *
footprint RESC1206X71N (Chip Resistor, 1206, 2-Leads, Body 3.2x1.6mm, IPC Medium Density)
pins: 1, 2

## 220K_2010
designator R?, comment value 220K  Tol: 1%  Text1: 2010  (hidden comment: 220K_R2010_1%)
Resistor Chip SMD; Manufacturer: Various; Part Number: 220K 2010 1%; Watt: 500mW; Package: RESC2010X71N; EDM-PN: *; Text2: *; Reutech PN: *; SAAB PN: *; DCE Part No: *
footprint RESC2010X71N (Chip Resistor, 2010, 2-Leads, Body 5.0x2.5mm, IPC Medium Density)
pins: 1, 2

## 220R-1%-62mW-BCN16-4AB
designator R?, comment value 220R  Tol: 1%  (hidden comment: 220R-1%-62mW-BCN16-4AB-H)
Resistor Chip Array; Manufacturer: Bi Tech; Part Number: BCN164ABI-221F; Watt: 62mW; Package: BCN16-4AB; EDM-PN: *; Text2: *; Text1: *; Reutech PN: *; SAAB PN: *; DCE Part No: *
footprint BCN16-4AB (BCN 16 4 AB 1.6x3.2mm)
pins: 1, 2, 3, 4, 5, 6, 7, 8

## 220R-1%-62mW-CAT16-4
designator R?  value 220R  Tol: 1%  (hidden comment: 220R-1%-62mW-CAT16-4)
Resistor Chip Array; Manufacturer: Bourns; Part Number: CAT16-221F4; Watt: 62mW; Package: CAT16-4; EDM-PN: *; Text2: *; Text1: *; Reutech PN: *; SAAB PN: *; DCE Part No: *
footprint CAT16-4 (Res Network 1.6x3.2mm)
pins: 1, 2, 3, 4, 5, 6, 7, 8

## 220R-1%-62mW-CAY16-4
designator R?  value 220R  Tol: 1%  (hidden comment: 220R-1%-62mW-CAY16-4)
Resistor Chip Array; Manufacturer: Bourns; Part Number: CAY16-221F4; Watt: 62mW; Package: CAY16-4; EDM-PN: *; Text2: *; Text1: *; Reutech PN: *; SAAB PN: *; DCE Part No: *
footprint CAY16-4 (Res Network 1.6x3.2mm)
pins: 1, 2, 3, 4, 5, 6, 7, 8

## 220R_0201
designator R?, comment value 220R  Tol: 1%  Text1: 0201  (hidden comment: 220R_R0201_1%)
Resistor Chip SMD; Manufacturer: Various; Part Number: 220R 0201 1%; Watt: 31mW; Package: RESC0201X33N; EDM-PN: *; Text2: *; Reutech PN: *; SAAB PN: *; DCE Part No: *
footprint RESC0201X33N (Chip Resistor, 0201, 2-Leads, Body 0.6x0.3mm, IPC Medium Density)
pins: 1, 2

## 220R_0402
designator R?, comment value 220R  Tol: 1%  Text1: 0402  (hidden comment: 220R_R0402_1%)
Resistor Chip SMD; Manufacturer: Various; Part Number: 220R 0402 1%; DCE Part No: 7693; Watt: 63mW; EDM-PN: RES1152; Package: RESC0402X40N; Text2: *; Reutech PN: *; SAAB PN: *
footprint RESC0402X40N (Chip Resistor, 0402, 2-Leads, Body 1.1x0.5mm, IPC Medium Density)
pins: 1, 2

## 220R_0402L
designator R?, comment value 220R  Tol: 1%  Text1: 0402  (hidden comment: 220R_R0402_1%)
Resistor Chip SMD; Manufacturer: Various; Part Number: 220R 0402 1%; DCE Part No: 7693; Watt: 63mW; EDM-PN: RES1152; Package: RESC0402X40L; Text2: *; Reutech PN: *; SAAB PN: *
footprint RESC0402X40L (Chip Resistor, 0402, 2-Leads, Body 1.1x0.5mm, IPC High Density)
pins: 1, 2

## 220R_0603
designator R?, comment value 220R  Tol: 1%  Text1: 0603  (hidden comment: 220R_R0603_1%)
Resistor Chip SMD; Manufacturer: Various; Part Number: 220R 0603 1%; Watt: 100mW; EDM-PN: RES864; Package: RESC0603X60N; Text2: *; Reutech PN: 5905-93-2200; SAAB PN: *; DCE Part No: *
footprint RESC0603X60N (Chip Resistor, 0603, 2-Leads, Body 1.6x0.8mm, IPC Medium Density)
pins: 1, 2

## 220R_0805
designator R?, comment value 220R  Tol: 1%  Text1: 0805  (hidden comment: 220R_R0805_1%)
Resistor Chip SMD; Manufacturer: Various; Part Number: 220R 0805 1%; Watt: 125mW; EDM-PN: RES111; Package: RESC0805X65N; Text2: *; Reutech PN: *; SAAB PN: *; DCE Part No: *
footprint RESC0805X65N (Chip Resistor, 0805, 2-Leads, Body 2.0x1.3mm, IPC Medium Density)
pins: 1, 2

## 220R_1206
designator R?, comment value 220R  Tol: 1%  Text1: 1206  (hidden comment: 220R_R1206_1%)
Resistor Chip SMD; Manufacturer: Various; Part Number: 220R 1206 1%; Watt: 250mW; EDM-PN: RES438; Package: RESC1206X71N; Text2: *; Reutech PN: *; SAAB PN: *; DCE Part No: *
footprint RESC1206X71N (Chip Resistor, 1206, 2-Leads, Body 3.2x1.6mm, IPC Medium Density)
pins: 1, 2

## 220R_2512
designator R?, comment value 220R  Watt: 1W  Text1: 2512  (hidden comment: 220R_R2512_1%)
Resistor Chip SMD; Manufacturer: Various; Part Number: 220R 2512 1%; Tol: 1%; Package: RESC2512X71N; EDM-PN: *; Text2: *; Reutech PN: *; SAAB PN: *; DCE Part No: *
footprint RESC2512X71N (Chip Resistor, 2512, 2-Leads, Body 6.3x3.2mm, IPC Medium Density)
pins: 1, 2

## 226K_0402
designator R?, comment value 226K  Tol: 1%  Text1: 0402  (hidden comment: 226K_R0402_1%)
Resistor Chip SMD; Manufacturer: Various; Part Number: 226K 0402 1%; Watt: 63mW; Package: RESC0402X40N; EDM-PN: *; Text2: *; Reutech PN: *; SAAB PN: *; DCE Part No: *
footprint RESC0402X40N (Chip Resistor, 0402, 2-Leads, Body 1.1x0.5mm, IPC Medium Density)
pins: 1, 2

## 226K_0603
designator R?, comment value 226K  Tol: 1%  Text1: 0603  (hidden comment: 226K_R0603_1%)
Resistor Chip SMD; Manufacturer: Various; Part Number: 226K 0603 1%; Watt: 100mW; Package: RESC0603X60N; EDM-PN: *; Text2: *; Reutech PN: *; SAAB PN: *; DCE Part No: *
footprint RESC0603X60N (Chip Resistor, 0603, 2-Leads, Body 1.6x0.8mm, IPC Medium Density)
pins: 1, 2

## 226K_0805
designator R?, comment value 226K  Tol: 1%  Text1: 0805  (hidden comment: 226K_R0805_1%)
Resistor Chip SMD; Manufacturer: Various; Part Number: 226K 0805 1%; Watt: 125mW; Package: RESC0805X65N; EDM-PN: *; Text2: *; Reutech PN: *; SAAB PN: *; DCE Part No: *
footprint RESC0805X65N (Chip Resistor, 0805, 2-Leads, Body 2.0x1.3mm, IPC Medium Density)
pins: 1, 2

## 226K_1206
designator R?, comment value 226K  Tol: 1%  Text1: 1206  (hidden comment: 226KR_R1206_1%)
Resistor Chip SMD; Manufacturer: Various; Part Number: 226K 1206 1%; Watt: 250mW; Package: RESC1206X71N; EDM-PN: *; Text2: *; Reutech PN: *; SAAB PN: *; DCE Part No: *
footprint RESC1206X71N (Chip Resistor, 1206, 2-Leads, Body 3.2x1.6mm, IPC Medium Density)
pins: 1, 2

## 232K_0201
designator R?, comment value 232K  Tol: 1%  Text1: 0201  (hidden comment: 232K_R0201_1%)
Resistor Chip SMD; Manufacturer: Various; Part Number: 232K 0201 1%; Watt: 31mW; Package: RESC0201X33N; EDM-PN: *; Text2: *; Reutech PN: *; SAAB PN: *; DCE Part No: *
footprint RESC0201X33N (Chip Resistor, 0201, 2-Leads, Body 0.6x0.3mm, IPC Medium Density)
pins: 1, 2

## 232K_0402
designator R?, comment value 232K  Tol: 1%  Text1: 0402  (hidden comment: 232K_R0402_1%)
Resistor Chip SMD; Manufacturer: Various; Part Number: 232K 0402 1%; Watt: 63mW; Package: RESC0402X40N; EDM-PN: *; Text2: *; Reutech PN: *; SAAB PN: *; DCE Part No: *
footprint RESC0402X40N (Chip Resistor, 0402, 2-Leads, Body 1.1x0.5mm, IPC Medium Density)
pins: 1, 2

## 232K_0603
designator R?, comment value 232K  Tol: 1%  Text1: 0603  (hidden comment: 232K_R0603_1%)
Resistor Chip SMD; Manufacturer: Various; Part Number: 232K 0603 1%; Watt: 100mW; Package: RESC0603X60N; EDM-PN: *; Text2: *; Reutech PN: *; SAAB PN: *; DCE Part No: *
footprint RESC0603X60N (Chip Resistor, 0603, 2-Leads, Body 1.6x0.8mm, IPC Medium Density)
pins: 1, 2

## 232K_0805
designator R?, comment value 232K  Tol: 1%  Text1: 0805  (hidden comment: 232K_R0805_1%)
Resistor Chip SMD; Manufacturer: Various; Part Number: 232K 0805 1%; Watt: 125mW; Package: RESC0805X65N; EDM-PN: *; Text2: *; Reutech PN: *; SAAB PN: *; DCE Part No: *
footprint RESC0805X65N (Chip Resistor, 0805, 2-Leads, Body 2.0x1.3mm, IPC Medium Density)
pins: 1, 2

## 232R_0201
designator R?, comment value 232R  Tol: 1%  Text1: 0201  (hidden comment: 232R_R0201_1%)
Resistor Chip SMD; Manufacturer: Various; Part Number: 232R 0201 1%; Watt: 31mW; Package: RESC0201X33N; EDM-PN: *; Text2: *; Reutech PN: *; SAAB PN: *; DCE Part No: *
footprint RESC0201X33N (Chip Resistor, 0201, 2-Leads, Body 0.6x0.3mm, IPC Medium Density)
pins: 1, 2

## 232R_0402
designator R?, comment value 232R  Tol: 1%  Text1: 0402  (hidden comment: 232R_R0402_1%)
Resistor Chip SMD; Manufacturer: Various; Part Number: 232R 0402 1%; Watt: 63mW; Package: RESC0402X40N; EDM-PN: *; Text2: *; Reutech PN: *; SAAB PN: *; DCE Part No: *
footprint RESC0402X40N (Chip Resistor, 0402, 2-Leads, Body 1.1x0.5mm, IPC Medium Density)
pins: 1, 2

## 232R_0603
designator R?, comment value 232R  Tol: 1%  Text1: 0603  (hidden comment: 232R_R0603_1%)
Resistor Chip SMD; Manufacturer: Various; Part Number: 232R 0603 1%; Watt: 100mW; Package: RESC0603X60N; EDM-PN: *; Text2: *; Reutech PN: *; SAAB PN: *; DCE Part No: *
footprint RESC0603X60N (Chip Resistor, 0603, 2-Leads, Body 1.6x0.8mm, IPC Medium Density)
pins: 1, 2

## 232R_0805
designator R?, comment value 232R  Tol: 1%  Text1: 0805  (hidden comment: 232R_R0805_1%)
Resistor Chip SMD; Manufacturer: Various; Part Number: 232R 0805 1%; Watt: 125mW; Package: RESC0805X65N; EDM-PN: *; Text2: *; Reutech PN: *; SAAB PN: *; DCE Part No: *
footprint RESC0805X65N (Chip Resistor, 0805, 2-Leads, Body 2.0x1.3mm, IPC Medium Density)
pins: 1, 2